# Altium schematic symbol library MB0045A.01.A.1.SchLib: 1 symbol
Pins are listed as number, name and electrical type; pins without a type are passive.

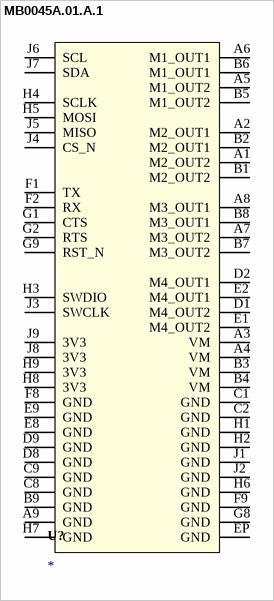
[diagram p0: symbol MB0045A.01.A.1]

## MB0045A.01.A.1
designator U?
pins: A1 M2_OUT2, A2 M2_OUT1, A3 VM, A4 VM, A5 M1_OUT2, A6 M1_OUT1, A7 M3_OUT2, A8 M3_OUT1, A9 GND, B1 M2_OUT2, B2 M2_OUT1, B3 VM, B4 VM, B5 M1_OUT2, B6 M1_OUT1, B7 M3_OUT2, B8 M3_OUT1, B9 GND, C1 GND, C2 GND, C8 GND, C9 GND, D1 M4_OUT2, D2 M4_OUT1, D8 GND, D9 GND, E1 M4_OUT2, E2 M4_OUT1, E8 GND, E9 GND, EP GND, F1 TX, F2 RX, F8 GND, F9 GND, G1 CTS, G2 RTS, G8 GND, G9 RST_N, H1 GND, H2 GND, H3 SWDIO, H4 SCLK, H5 MOSI, H6 GND, H7 GND, H8 3V3, H9 3V3, J1 GND, J2 GND, J3 SWCLK, J4 CS_N, J5 MISO, J6 SCL, J7 SDA, J8 3V3, J9 3V3